# Altium footprint library PCB - CONNECTOR - SAMTEC IPL1-102-01-L-S-RA-K.PCBLIB: 1 footprints
Each footprint in its own frame and in the unit in brackets; x right, y up, seen from the top. Pads: shape width x height; smd on the part's side, far side on the other; paste and mask are expansions set on the pad; w line width, h text height; cw(c..) or ccw(c..) is an arc to the next point about the centre after c.
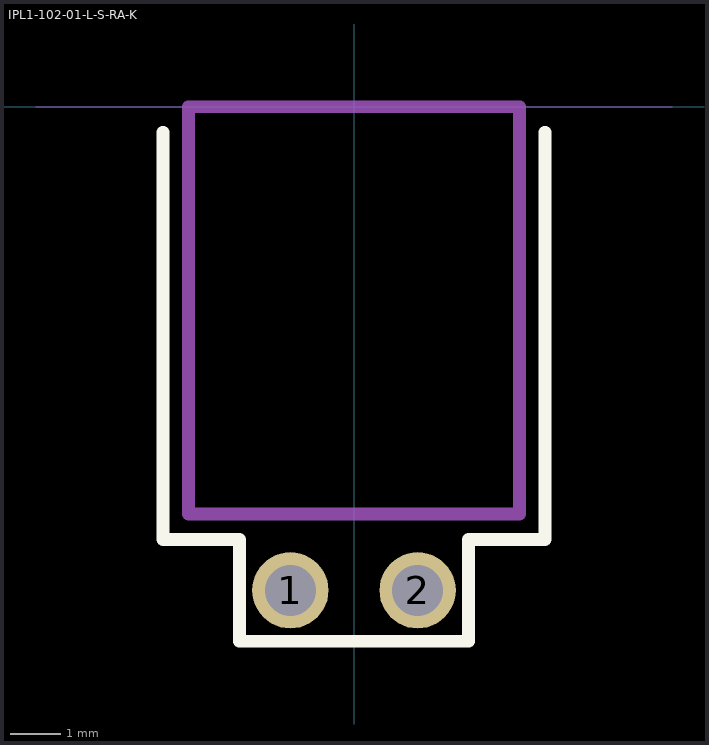
[diagram p0: the footprint, top view; thin cyan lines are the x and y axes]

## IPL1-102-01-L-S-RA-K [mil]
pads (2):
  round 60 hole 40 mask+3: 1(-50,-380) 2(50,-380)
Top Overlay:
  lines w10: -150,-20 -150,-340 -90,-340 -90,-420 90,-420 90,-340 150,-340 150,-20
M5 Assembly Top:
  lines w10: -130,-320 130,-320 130,0 -130,0 -130,-320
  text ".Designator" at -66.93,-259.84 h60
Mechanical 16:
  lines w0.01: -250,0 250,0
3D body "IPL1-102-01-L-S-RA-K.stp": height 260, standoff -85, extent -129.99,-392.49 130.01,0.01